# EAGLE library part L6234D (library parts)
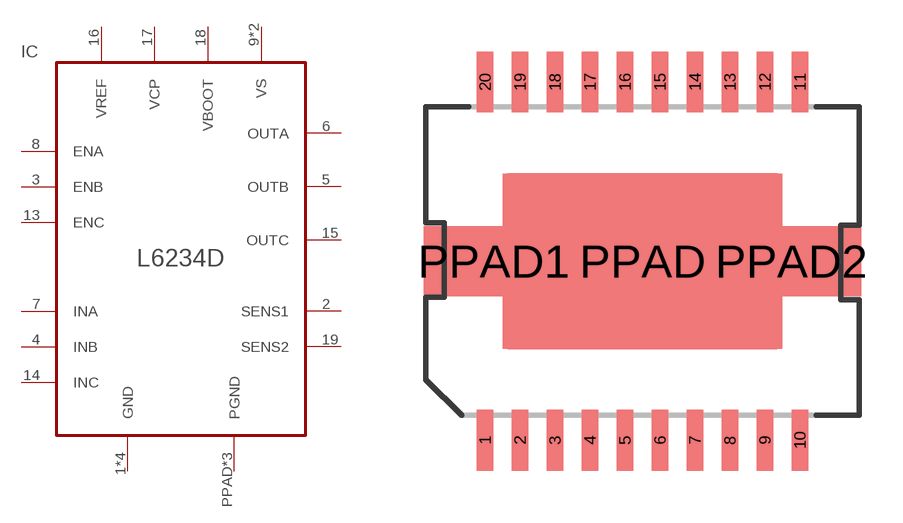
[diagram p0: symbol with the pads of POWER_SO20; footprint POWER_SO20]

Designator prefix IC

## L6234D  [POWER_SO20]
1  GND  sup
2  SENS1  out
3  ENB  in
4  INB  in
5  OUTB  out
6  OUTA  out
7  INA  in
8  ENA  in
9  VS  sup
10  GND  sup
11  GND  sup
12  VS  sup
13  ENC  in
14  INC  in
15  OUTC  out
16  VREF
17  VCP
18  VBOOT
19  SENS2  out
20  GND  sup
PPAD  PGND  sup
PPAD1  PGND  sup
PPAD2  PGND  sup

## Footprint POWER_SO20 (pad centres in mm)
Power-SO20(L6234D)
smd 0.6 x 2.2: 1 -5.715,-6.5; 2 -4.445,-6.5; 3 -3.175,-6.5; 4 -1.905,-6.5; 5 -0.635,-6.5; 6 0.635,-6.5; 7 1.905,-6.5; 8 3.175,-6.5; 9 4.445,-6.5; 10 5.715,-6.5; 11 5.715,6.5; 12 4.445,6.5; 13 3.175,6.5; 14 1.905,6.5; 15 0.635,6.5; 16 -0.635,6.5; 17 -1.905,6.5; 18 -3.175,6.5; 19 -4.445,6.5; 20 -5.715,6.5
smd 10.16 x 6.35: PPAD 0,0
smd 5.08 x 2.54: PPAD1 -5.397,0; PPAD2 5.397,0